# Altium footprint library PCB - CAPACITOR - MLCC - CAP 0603_1608.PcbLib: 1 footprints
Each footprint in its own frame and in the unit in brackets; x right, y up, seen from the top. Pads: shape width x height; smd on the part's side, far side on the other; paste and mask are expansions set on the pad; w line width, h text height; cw(c..) or ccw(c..) is an arc to the next point about the centre after c.
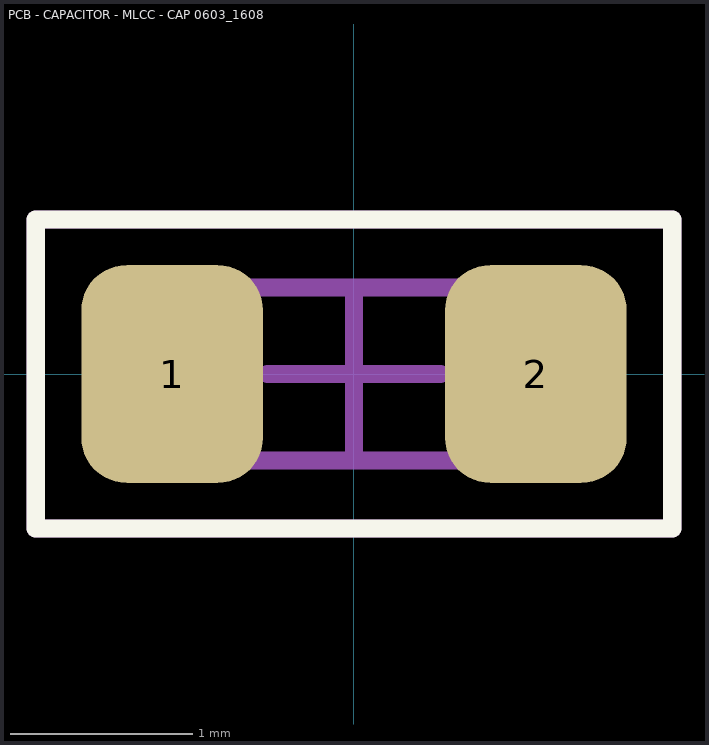
[diagram p0: the footprint, top view; thin cyan lines are the x and y axes]

## PCB - CAPACITOR - MLCC - CAP 0603_1608 [mm]
pads (2):
  rrect50% 1x1.2 smd: 1(-1,0) 2(1,0)
Top Overlay:
  lines w0.1: -1.75,-0.85 1.75,-0.85 1.75,0.85 -1.75,0.85 -1.75,-0.85
Mechanical 13:
  lines w0.1: -0.875,-0.475 0.875,-0.475 0.875,0.475 -0.875,0.475 -0.875,-0.475
Mechanical 15:
  lines w0.1: -0.475,0 0.475,0 ; 0,-0.475 0,0.475 ; -1.75,-0.85 -1.225,-0.85 1.75,-0.85 1.75,0.85 1.425,0.85 -1.75,0.85 -1.75,-0.85
3D body "74394.stp": height 0.93, standoff -0.02, extent -0.875,-0.438 0.875,0.432